# Altium schematic symbol library CH340N.SchLib: 1 symbol
Pins are listed as number, name and electrical type; pins without a type are passive.

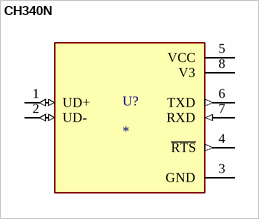
[diagram p0: symbol CH340N]

## CH340N
designator U?
USB to Serial Port Chip; MF: WCH; MP: CH340N; SnapEDA_Link: https://www.snapeda.com/parts/CH340N/WCH/view-part/?ref=snap; Package: Package; Value: *; Check_prices: https://www.snapeda.com/parts/CH340N/WCH/view-part/?ref=eda
footprint CH340N
pins: 1 UD+ (io), 2 UD- (io), 3 GND (power), 4 ~{RTS} (out), 5 VCC (power), 6 TXD (out), 7 RXD (in), 8 V3 (power)